# Altium schematic symbol library PowerMeter.SchLib: 33 symbols
Pins are listed as number, name and electrical type; pins without a type are passive.

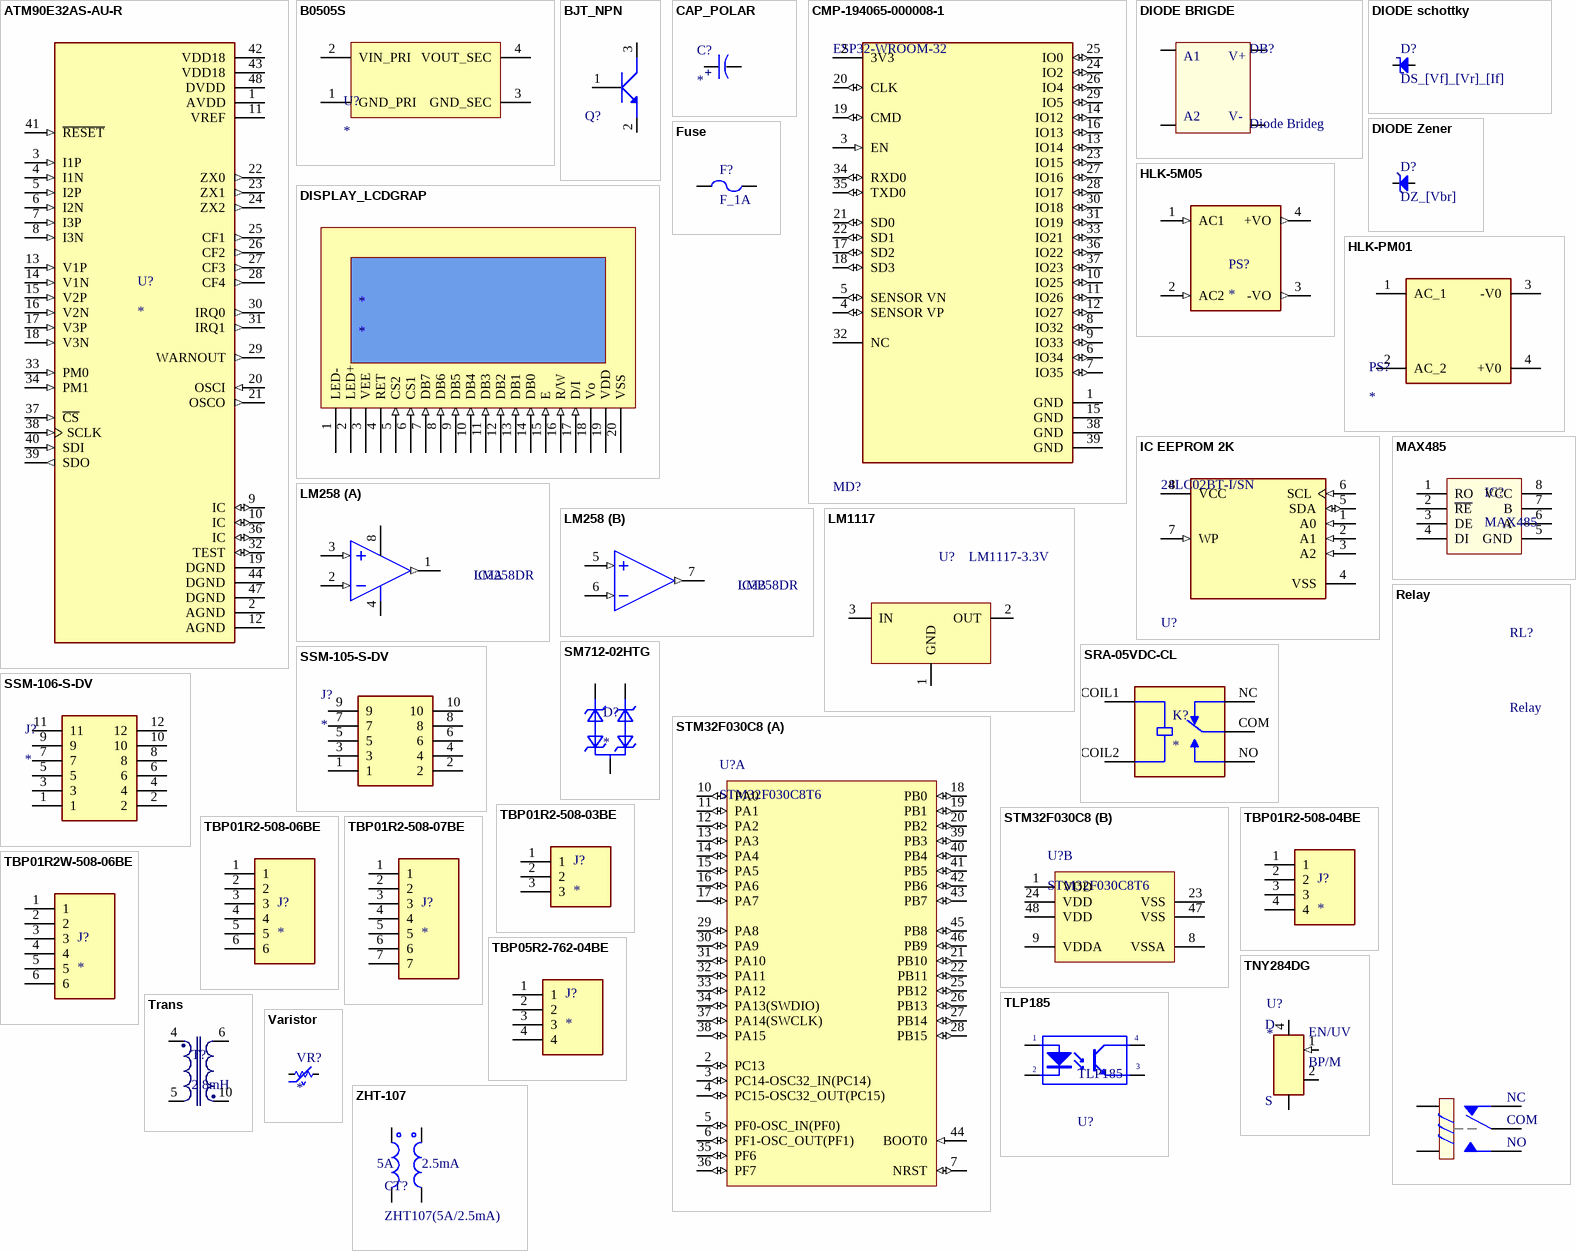
[diagram p0: symbols ATM90E32AS-AU-R to ZHT-107]

## ATM90E32AS-AU-R
designator U?
IC ENERGY METER 1.8V/3V 48TQFP; MP: ATM90E32AS-AU-R; MF: Microchip; SnapEDA_Link: https://www.snapeda.com/parts/ATM90E32AS-AU-R/Microchip/view-part/592639/?ref=snap; Availability: Warning; Price: None; Value: *; Purchase-URL: https://pricing.snapeda.com/search/part/ATM90E32AS-AU-R/?ref=eda; Package: TQFP-48 Microchip; LCSC Part #: *
footprint TSQFP50P900X900X120-48N (TSQFP, 48-Leads, Body 7.00x7.00mm, Pitch 0.50mm, IPC Medium Density)
pins: 1 AVDD (power), 2 AGND (power), 3 I1P (in), 4 I1N (in), 5 I2P (in), 6 I2N (in), 7 I3P (in), 8 I3N (in), 9 IC (io), 10 IC (io), 11 VREF (power), 12 AGND (power), 13 V1P (in), 14 V1N (in), 15 V2P (in), 16 V2N (in), 17 V3P (in), 18 V3N (in), 19 DGND (power), 20 OSCI (in), 21 OSCO (out), 22 ZX0 (out), 23 ZX1 (out), 24 ZX2 (out), 25 CF1 (out), 26 CF2 (out), 27 CF3 (out), 28 CF4 (out), 29 WARNOUT (out), 30 IRQ0 (out), 31 IRQ1 (out), 32 TEST (io), 33 PM0 (in), 34 PM1 (in), 36 IC (io), 37 ~{CS} (in), 38 SCLK (in), 39 SDO (out), 40 SDI (in), 41 ~{RESET} (in), 42 VDD18 (power), 43 VDD18 (power), 44 DGND (power), 47 DGND (power), 48 DVDD (power)

## B0505S
designator U?
LCSC Part #: *
footprint B0505S-1W
pins: 1 GND_PRI, 2 VIN_PRI, 3 GND_SEC, 4 VOUT_SEC

## BJT_NPN
designator Q?
LCSC Part #: *
footprint SOT-323 (SOT23, 3-Leads, Body 2.00x2.10mm, Pitch 0.65mm, IPC Medium Density)
pins: 1 B, 2 E, 3 C

## CAP_POLAR
designator C?
LCSC Part #: *
footprint CAP-ALU-SMD-4.5x5x1.4
footprint CAP-ALU-SMD-5x5.5x1.4
footprint CAP-ALU-SMD-6.3x7.7x2.2
pins: 1, 2
text: +

## CMP-194065-000008-1
designator MD?, comment ESP32-WROOM-32
RX TXRX MOD WIFI SURFACE MOUNT; Frequency: 2.5GHz; Sensitivity: -98dBm; Operating Supply Voltage: 3.6V; Data Rate: 150Mbps; Weight: 0.088185oz; Package Quantity: 550; Min Operating Temperature: -40°C; Mount: Surface Mount; Max Operating Temperature: 85°C; Packaging: Cut Tape; Case/Package: SMD/SMT
footprint FP-ESP32-WROOM-32-MFG
pins: 1 GND (power), 2 3V3 (power), 3 EN (in), 4 SENSOR VP (io), 5 SENSOR VN (io), 6 IO34 (io), 7 IO35 (io), 8 IO32 (io), 9 IO33 (io), 10 IO25 (io), 11 IO26 (io), 12 IO27 (io), 13 IO14 (io), 14 IO12 (io), 15 GND (power), 16 IO13 (io), 17 SD2 (io), 18 SD3 (io), 19 CMD (io), 20 CLK (io), 21 SD0 (io), 22 SD1 (io), 23 IO15 (io), 24 IO2 (io), 25 IO0 (io), 26 IO4 (io), 27 IO16 (io), 28 IO17 (io), 29 IO5 (io), 30 IO18 (io), 31 IO19 (io), 32 NC, 33 IO21 (io), 34 RXD0 (io), 35 TXD0 (io), 36 IO22 (io), 37 IO23 (io), 38 GND (power), 39 GND (power)

## DIODE BRIGDE
designator DB?, comment Diode Brideg
Convert AC to DC voltage, 4 pin; Value: Cau 1A; LCSC Part #: *
footprint SOT508P985X260-4N
pins: 1 +V OUT, 2 -V OUT, 3 AC1, 4 AC2
text: A1; V+; A2; V-

## DIODE schottky
designator D?, comment DS_[Vf]_[Vr]_[If]
Schottky; LCSC Part #: *
footprint LL-34 (MELF Diode, 2-Leads, Body 3.50x1.45mm, IPC Medium Density)
pins: 1 K, 2 A

## DIODE Zener
designator D?, comment DZ_[Vbr]
Zenner; LCSC Part #: *
footprint LL-34 (MELF Diode, 2-Leads, Body 3.50x1.45mm, IPC Medium Density)
pins: 1 K, 2 A

## DISPLAY_LCDGRAP
designator *
Display 128x64pixel; Manufacturer: Newhaven Display; Manufacturer Part Number: NHD-12864AZ-NSW-BBW-TR; Supplier: Digikey; Supplier Part Number: NHD-12864AZ-NSW-BBW-TR-ND; RoHS: No; Category: LCD, OLED, Graphic Displays; Stock: 303; Pricing: 1=31,34, 5=29,46, 10=27,579, 50=26,0124, 100=24,7588, 250=23,50516 (USD); ComponentLink1URL: https://datasheet.ciiva.com:443/pdfs/VipMasterIC/IC/NWAL/NWALS00082/NWALS00082-1.pdf?src-supplier=IHS+Markit; ComponentLink1Description: https://datasheet.ciiva.com:443/pdfs/VipMasterIC/IC/NWAL/NWALS00082/NWALS00082-1.pdf?src-supplier=IHS+Markit; ComponentLink2URL: https://datasheet.ciiva.com/2102/nhd-12864az-nsw-bbw-tr-2102907.pdf?src-supplier=Digikey; ComponentLink2Description: https://datasheet.ciiva.com/2102/nhd-12864az-nsw-bbw-tr-2102907.pdf?src-supplier=Digikey; ComponentLink3URL: https://datasheet.ciiva.com/16231/nhd-12864az-nsw-bbw-tr-16231892.pdf?src-supplier=Onlinecomponents.com; ComponentLink3Description: https://datasheet.ciiva.com/16231/nhd-12864az-nsw-bbw-tr-16231892.pdf?src-supplier=Onlinecomponents.com; ComponentLink4URL: https://datasheet.ciiva.com/5326/nhd-12864az-nsw-bbw-tr-52487-5326437.pdf?src-supplier=Mouser; ComponentLink4Description: https://datasheet.ciiva.com/5326/nhd-12864az-nsw-bbw-tr-52487-5326437.pdf?src-supplier=Mouser; ComponentLink5URL: https://datasheet.ciiva.com/30204/nhd-12864az-nsw-bbw-tr-30204634.pdf?src-supplier=Onlinecomponents.com; ComponentLink5Description: https://datasheet.ciiva.com/30204/nhd-12864az-nsw-bbw-tr-30204634.pdf?src-supplier=Onlinecomponents.com
footprint LCD_GRAP_20PIN
pins: 1 LED- (power), 2 LED+ (power), 3 VEE (power), 4 RET, 5 CS2 (in), 6 CS1 (in), 7 DB7 (in), 8 DB6 (in), 9 DB5 (in), 10 DB4 (in), 11 DB3 (in), 12 DB2 (in), 13 DB1 (in), 14 DB0 (in), 15 E (in), 16 R/W (in), 17 D/I (in), 18 Vo (power), 19 VDD (power), 20 VSS (power)

## Fuse
designator F?, comment F_1A
Fuse; Designed by: VanDungEvn; Value: Fuse; LCSC Part #: *
footprint RES_C_3216X70 (Chip Resistor, 2-Leads, Body 3.20x1.60mm, IPC Medium Density)
pins: 1, 2

## HLK-5M05
designator PS?
AC DC 220V to 5V 5W 5Watt Isolated Switching Step-Down Power Supply Module Converter; MF: Hi-link; MP: HLK-5M05; Check_prices: https://www.snapeda.com/parts/HLK-5M05/Hi-link/view-part/?ref=eda; SnapEDA_Link: https://www.snapeda.com/parts/HLK-5M05/Hi-link/view-part/?ref=snap; Price: None; Availability: Not in stock; Package: Package; Value: *
footprint CONV_HLK-5M05
pins: 1 AC1 (in), 2 AC2 (in), 3 -VO (out), 4 +VO (out)

## HLK-PM01
designator PS?
Power Supply; Manufacturer_Name: Hi-Link; Manufacturer_Part_Number: HLK-PM01; Datasheet Link: https://datasheet.lcsc.com/szlcsc/1906201102_HI-LINK-HLK-PM03_C209904.pdf; Height: 15mm; LCSC Part #: *
footprint HLKPM01
pins: 1 AC_1, 2 AC_2, 3 -V0, 4 +V0

## IC EEPROM 2K
designator U?, comment 24LC02BT-I/SN
IC EEPROM 2K I2C 400KHZ 8SOIC; Max Supply Voltage: 5.5V; Number of Words: 256; Memory Size: 2Kb; Nominal Supply Current: 3mA; Access Time: 900ns; Min Supply Voltage: 2.5V; Memory Type: EEPROM; Max Frequency: 400kHz; Mount: Surface Mount; Frequency: 400kHz; Number of Pins: 8; Lead Free: Lead Free; Contact Plating: Tin; Interface: I2C; Density: 2Kb; Case/Package: SOIC; Radiation Hardening: No; Max Operating Temperature: 85°C; Packaging: Tape and Reel; Height: 1.5mm; Package Quantity: 3300; Length: 4.9mm; Min Operating Temperature: -40°C; REACH SVHC: No SVHC; Width: 3.9mm; LCSC Part #: *
footprint SOIC-8 (SOIC, 8-Leads, Body 4.91x3.90mm, Pitch 1.27mm, IPC Medium Density)
pins: 1 A0 (in), 2 A1 (in), 3 A2 (in), 4 VSS (power), 5 SDA (io), 6 SCL (in), 7 WP (in), 8 VCC (power)

## LM258
designator IC?, comment LM258DR
Low-Power Dual Operational Amplifier; Value: LM358; LCSC Part #: *
footprint SOIC-8 (SOIC, 8-Leads, Body 4.91x3.90mm, Pitch 1.27mm, IPC Medium Density)
part A pins: 1 OUT (out), 2 IN- (in), 3 IN+ (in), 4 -V, 8 +V
part B pins: 5 IN+ (in), 6 IN- (in), 7 OUT (out)

## LM1117
designator U?, comment LM1117-3.3V
800mA Low-Dropout Linear Regulator; Creator: Nguyen Ba Bien; Website: http://group3i.net; LCSC Part #: *
footprint SOT230P700X180-4N (SOT223, 4-Leads, Body 6.50x7.00mm (avg), Pitch 2.30mm, IPC Medium Density)
pins: 1 GND, 2 OUT, 3 IN

## MAX485
designator IC?
RS232 - RS485 (Same sn75176); LCSC Part #: *
footprint SOIC-8 (SOIC, 8-Leads, Body 4.91x3.90mm, Pitch 1.27mm, IPC Medium Density)
pins: 1 RO "Receiver Output", 2 ~{RE} "Receiver Enable Output", 3 DE "Driver Enable Output", 4 DI "Driver Input", 5 GND, 6 A "RI & NoneDO", 7 B "NoneDI", 8 VCC

## Relay
designator RL?
Value: Relay SPDT, 10A, 12V; LCSC Part #: *
footprint RELAY_9-1393792-1
pins: 1, 4, 6, 8, 9, 11, 13, 16
text: NC; COM; NO

## SM712-02HTG
designator D?
TVS Diode, SM712 Series, 31V Clamp, 600W Peak Pulse, Surface Mount, SOT23-3 | Littelfuse SM712-02HTG; MF: Littelfuse Inc.; SnapEDA_Link: https://www.snapeda.com/parts/SM712-02HTG/Littelfuse/view-part/?ref=snap; Package: SOT-23 Littelfuse Inc.; Value: *; MP: SM712-02HTG; Check_prices: https://www.snapeda.com/parts/SM712-02HTG/Littelfuse/view-part/?ref=eda; LCSC Part #: *
footprint SOT95P237X112-3N (SOT23, 3-Leads, Body 2.92x2.37mm, Pitch 0.95mm, IPC Medium Density)
pins: 1, 2, 3

## SRA-05VDC-CL
designator K?
MF: Songle Relay; MP: SRA-05VDC-CL; SnapEDA_Link: https://www.snapeda.com/parts/SRA-05VDC-CL/Songle+Relay/view-part/?ref=snap; Package: Package; Value: *; Check_prices: https://www.snapeda.com/parts/SRA-05VDC-CL/Songle+Relay/view-part/?ref=eda
footprint RELAY_SRA-05VDC-CL
pins: COIL1, COIL2, COM, NC, NO

## SSM-105-S-DV
designator J?
Connector; Manufacturer_Name: SAMTEC; Manufacturer_Part_Number: SSM-105-S-DV; Datasheet Link: https://mm.digikey.com/Volume0/opasdata/d220001/medias/docus/6129/ssm-1xx-xxx-dv-xx-xx-xxx-x-xx-mkt.pdf; Mouser Part Number: 200-SSM105SDV; Mouser Price/Stock: https://www.mouser.co.uk/ProductDetail/Samtec/SSM-105-S-DV?qs=XtX6y9BSeMiNY1vJI%2FFCQQ%3D%3D; Arrow Part Number: SSM-105-S-DV; Arrow Price/Stock: https://www.arrow.com/en/products/ssm-105-s-dv/samtec; LCSC Part #: *
footprint SSM-105-XXX-DV-BE
pins: 1, 2, 3, 4, 5, 6, 7, 8, 9, 10

## SSM-106-S-DV
designator J?
Connector; Manufacturer_Name: SAMTEC; Manufacturer_Part_Number: SSM-105-S-DV; Datasheet Link: https://mm.digikey.com/Volume0/opasdata/d220001/medias/docus/6129/ssm-1xx-xxx-dv-xx-xx-xxx-x-xx-mkt.pdf; Mouser Part Number: 200-SSM105SDV; Mouser Price/Stock: https://www.mouser.co.uk/ProductDetail/Samtec/SSM-105-S-DV?qs=XtX6y9BSeMiNY1vJI%2FFCQQ%3D%3D; Arrow Part Number: SSM-105-S-DV; Arrow Price/Stock: https://www.arrow.com/en/products/ssm-105-s-dv/samtec; LCSC Part #: *
footprint SSM-105-XXX-DV-BE
pins: 1, 2, 3, 4, 5, 6, 7, 8, 9, 10, 11, 12

## STM32F030C8
designator U?, comment STM32F030C8T6
ARM Cortex-M0 32-bit MCU, 64 KB Flash, 8 KB Internal RAM, 39 I/Os, 48-pin LQFP, -40 to 85 degC, Tray; FLASH Size (Prog) (kB): 64; I/Os (High Current): 39; Operating Frequency(F) (Processor speed) (MHz): 48; Supply Voltage(Vcc) min (V): 2.4; Internal RAM Size (kB): 8; Packing: Tray; ComponentLink2URL: http://www.st.com/st-web-ui/static/active/en/resource/technical/document/datasheet/DM00088500.pdf; PackageVersion: Rev. 6, 06/2013; ComponentLink2Description: Datasheet; PartNumber: STM32F030C8T6; PackageDescription: 48-Pin Low Profile Quad Flat Package, 7 x 7 mm Body, 0.5 mm Pitch; Mounting Technology: Surface Mount; ComponentLink1URL: http://www.st.com/web/en/home.html; PackageReference: LQFP48; ComponentLink3URL: http://www.st.com/st-web-ui/static/active/en/resource/technical/document/datasheet/DM00058181.pdf; DatasheetVersion: Rev. 1; Core: ARM Cortex-M0; ComponentLink1Description: Manufacturer URL; ComponentLink3Description: Package Specification; LCSC Part #: *
footprint STM-LQFP48_N (QFP, 48-Leads, Body 7x7mm, Pitch 0.5mm, IPC Medium Density)
footprint STM-LQFP48_M (QFP, 48-Leads, Body 7x7mm, Pitch 0.5mm, IPC Low Density)
footprint STM-LQFP48_L (QFP, 48-Leads, Body 7x7mm, Pitch 0.5mm, IPC High Density)
part A pins: 2 PC13 (io) "PC13/RTC_TAMP1,RTC_TS,RTC_OUT,WKUP2", 3 PC14-OSC32_IN(PC14) (io) "PC14-OSC32_IN(PC14)/OSC32_IN", 4 PC15-OSC32_OUT(PC15) (io) "PC15-OSC32_OUT(PC15)/OSC32_OUT", 5 PF0-OSC_IN(PF0) (io) "PF0-OSC_IN(PF0)/OSC_IN", 6 PF1-OSC_OUT(PF1) (io) "PF1-OSC_OUT(PF1)/OSC_OUT", 7 NRST (io) "Device reset input / internal reset output (active low)", 10 PA0 (io) "PA0/USART2_CTS/ADC_IN0,RTC_TAMP2,WKUP1", 11 PA1 (io) "PA1/USART2_RTS,EVENTOUT/ADC_IN1", 12 PA2 (io) "PA2/USART2_TX,TIM15_CH1/ADC_IN2", 13 PA3 (io) "PA3/USART2_RX,TIM15_CH2/ADC_IN3", 14 PA4 (io) "PA4/SPI1_NSS/USART2_CK,TIM14_CH1/ADC_IN4", 15 PA5 (io) "PA5/SPI1_SCK/ADC_IN5", 16 PA6 (io) "PA6/SPI1_MISO,TIM3_CH1,TIM1_BKIN,TIM16_CH1,EVENTOUT/ADC_IN6", 17 PA7 (io) "PA7/SPI1_MOSI,TIM3_CH2,TIM14_CH1,TIM1_CH1N,TIM17_CH1,EVENTOUT/ADC_IN7", 18 PB0 (io) "PB0/TIM3_CH3,TIM1_CH2N,EVENTOUT/ADC_IN8", 19 PB1 (io) "PB1/TIM3_CH4,TIM14_CH1,TIM1_CH3N/ADC_IN9", 20 PB2 (io), 21 PB10 (io) "PB10/I2C2_SCL", 22 PB11 (io) "PB11/I2C2_SDA,EVENTOUT", 25 PB12 (io) "PB12/SPI2_NSS,TIM1_BKIN,EVENTOUT", 26 PB13 (io) "PB13/SPI2_SCK,TIM1_CH1N", 27 PB14 (io) "PB14/SPI2_MISO,TIM1_CH2N,TIM15_CH1", 28 PB15 (io) "PB15/SPI2_MOSI,TIM1_CH3N,TIM15_CH1N,TIM15_CH2/RTC_REFIN", 29 PA8 (io) "PA8/USART1_CK,TIM1_CH1,EVENTOUT,MCO", 30 PA9 (io) "PA9/USART1_TX,TIM1_CH2,TIM15_BKIN", 31 PA10 (io) "PA10/USART1_RX,TIM1_CH3,TIM17_BKIN", 32 PA11 (io) "PA11/USART1_CTS,TIM1_CH4,EVENTOUT", 33 PA12 (io) "PA12/USART1_RTS,TIM1_ETR,EVENTOUT", 34 PA13(SWDIO) (io) "PA13(SWDIO)/IR_OUT,SWDIO", 35 PF6 (io) "PF6/I2C2_SCL", 36 PF7 (io) "PF7/I2C2_SDA", 37 PA14(SWCLK) (io) "PA14(SWCLK)/USART2_TX,SWCLK", 38 PA15 (io) "PA15/SPI1_NSS,USART2_RX,EVENTOUT", 39 PB3 (io) "PB3/SPI1_SCK,EVENTOUT", 40 PB4 (io) "PB4/SPI1_MISO,TIM3_CH1,EVENTOUT", 41 PB5 (io) "PB5/SPI1_MOSI,I2C1_SMBA,TIM16_BKIN,TIM3_CH2", 42 PB6 (io) "PB6/I2C1_SCL,USART1_TX,TIM16_CH1N", 43 PB7 (io) "PB7/I2C1_SDA,USART1_RX,TIM17_CH1N", 44 BOOT0 (in) "Boot memory selection", 45 PB8 (io) "PB8/I2C1_SCL,TIM16_CH1", 46 PB9 (io) "PB9/I2C1_SDA,IR_OUT,TIM17_CH1,EVENTOUT"
part B pins: 1 VDD (power) "Digital power supply", 8 VSSA (power) "Analog ground", 9 VDDA (power) "Analog power supply", 23 VSS (power) "Ground", 24 VDD (power) "Digital power supply", 47 VSS (power) "Ground", 48 VDD (power) "Digital power supply"

## TBP01R2-508-03BE
designator J?
2~24 Poles, Pluggable, Receptacle, Vertical, 5.08 Pitch, Terminal Block Connector; MF: Same Sky; MP: TBP01R2-508-03BE; SnapEDA_Link: https://www.snapeda.com/parts/TBP01R2-508-03BE/Same+Sky/view-part/?ref=snap; Package: None; Value: *; Check_prices: https://www.snapeda.com/parts/TBP01R2-508-03BE/Same+Sky/view-part/?ref=eda; LCSC Part #: *
footprint CUI_TBP01R2-508-03BE
pins: 1, 2, 3

## TBP01R2-508-04BE
designator J?
2~24 Poles, Pluggable, Receptacle, Vertical, 5.08 Pitch, Terminal Block Connector; MF: Same Sky; MP: TBP01R2-508-04BE; SnapEDA_Link: https://www.snapeda.com/parts/TBP01R2-508-04BE/Same+Sky/view-part/?ref=snap; Package: None; Value: *; Check_prices: https://www.snapeda.com/parts/TBP01R2-508-04BE/Same+Sky/view-part/?ref=eda
footprint CUI_TBP01R2-508-04BE
pins: 1, 2, 3, 4

## TBP01R2-508-06BE
designator J?
2~24 Ð¿Ð¾Ð»ÑŽÑÐ°, Ð¿Ð¾Ð´ÐºÐ»ÑŽÑ‡Ð°ÐµÐ¼Ñ‹Ð¹, Ð²ÐµÑ€Ñ‚Ð¸ÐºÐ°Ð»ÑŒÐ½Ñ‹Ð¹, ÑˆÐ°Ð³ 5,08, ÐºÐ»ÐµÐ¼Ð¼Ð½Ñ‹Ð¹ Ð±Ð»Ð¾Ðº; MF: Same Sky; MP: TBP01R2-508-06BE; SnapEDA_Link: https://www.snapeda.com/parts/TBP01R2-508-06BE/Same+Sky/view-part/?ref=snap; Package: None; Value: *; Check_prices: https://www.snapeda.com/parts/TBP01R2-508-06BE/Same+Sky/view-part/?ref=eda
footprint CUI_TBP01R2-508-06BE
pins: 1, 2, 3, 4, 5, 6

## TBP01R2-508-07BE
designator J?
2~24 Poles, Pluggable, Receptacle, Vertical, 5.08 Pitch, Terminal Block Connector; MF: Same Sky; MP: TBP01R2-508-07BE; SnapEDA_Link: https://www.snapeda.com/parts/TBP01R2-508-07BE/Same+Sky/view-part/?ref=snap; Package: None; Value: *; Check_prices: https://www.snapeda.com/parts/TBP01R2-508-07BE/Same+Sky/view-part/?ref=eda; LCSC Part #: *
footprint CUI_TBP01R2-508-07BE
pins: 1, 2, 3, 4, 5, 6, 7

## TBP01R2W-508-06BE
designator J?
2~24 Poles, Pluggable, Receptacle, Vertical 5.08 Pitch, Terminal Block Connector; MF: Same Sky; MP: TBP01R2W-508-06BE; SnapEDA_Link: https://www.snapeda.com/parts/TBP01R2W-508-06BE/Same+Sky/view-part/?ref=snap; Package: None; Value: *; Check_prices: https://www.snapeda.com/parts/TBP01R2W-508-06BE/Same+Sky/view-part/?ref=eda; LCSC Part #: *
footprint CUI_TBP01R2W-508-06BE
pins: 1, 2, 3, 4, 5, 6

## TBP05R2-762-04BE
designator J?
2~24 Poles, Pluggable, Receptacle, Vertical, 7.62 Pitch, Terminal Block Connector; MF: Same Sky; MP: TBP05R2-762-04BE; SnapEDA_Link: https://www.snapeda.com/parts/TBP05R2-762-04BE/Same+Sky/view-part/?ref=snap; Package: None; Value: *; Check_prices: https://www.snapeda.com/parts/TBP05R2-762-04BE/Same+Sky/view-part/?ref=eda; LCSC Part #: *
footprint CUI_TBP05R2-762-04BE
pins: 1, 2, 3, 4

## TLP185
designator U?
Single Opto; Value: PC817; LCSC Part #: *
footprint SOP254P700X220-4N (SOP, 4-Leads, Body 3.75x4.60mm, Pitch 2.54mm, IPC Medium Density)
pins: 1 A "Anode", 2 K "Cathode", 3 E "Emitter", 4 C "Collector"

## TNY284DG
designator U?
MP: TNY284DG; Package: None; Price: None; LCSC Part #: *; Availability: Unavailable
footprint IC_TNY2XXDG
footprint IC_TNY274PN
pins: 1 EN/UV (in), 2 BP/M, 4 D, 5 S, 6 S, 7 S, 8 S

## Trans
designator T?, comment 2.8mH
Off-Line Transformer WE-UNIT , L=2.5mH; PartNo: 7491181012; Manufacturer: Würth Elektronik eiSos GmbH; Turns Ratio: 8.1:1; Input Voltage (AC): 85-265; Output Current (A): 0.25; Output Voltage (DC): 12; Inductance: 2.8mH; ComponentLink1Description: Manufacturer; ComponentLink1URL: http://www.we-online.de; Created by: Otto Christin; Created Date: OCT 2013; ComponentLink2Description: Datasheet; ComponentLink2URL: http://www.we-online.de/katalog/media/pdf/7491181012.pdf; LCSC Part #: *
footprint BOBBIN_EE13/6/6
pins: 4, 5, 6, 10

## Varistor
designator VR?
LCSC Part #: *
footprint VAR_B72220S0301K101
pins: 1, 2

## ZHT-107
designator CT?, comment ZHT107(5A/2.5mA)
C5183046; LCSC Part #: *
footprint ZHT107
pins: 1, 2, 3, 4
text: 5A; 2.5mA